# EAGLE library part TRANSFLASH (library sd-mmc)
TransFlash TF Micro SD Card Socket Adapter
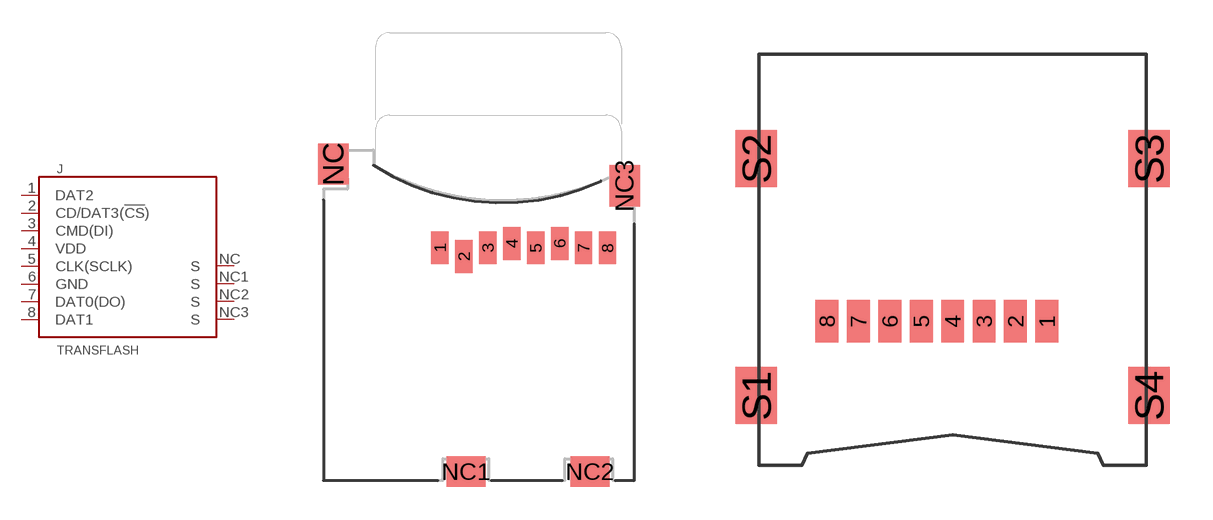
[diagram p1: symbol with the pads of MICROSD_MICROSD; footprints MICROSD_MICROSD, TRANSFLASH-LOCK-SOCK]

Designator prefix J

## TRANSFLASH-PUSH  [MICROSD_MICROSD]
1  DAT2
2  CD/DAT3(!CS!)
3  CMD(DI)
4  VDD  pwr
5  CLK(SCLK)
6  GND  pwr
7  DAT0(DO)
8  DAT1
NC  S  pas
NC1  S  pas
NC2  S  pas
NC3  S  pas

## TRANSFLASH-LOCK  [TRANSFLASH-LOCK-SOCK]
1  DAT2
2  CD/DAT3(!CS!)
3  CMD(DI)
4  VDD  pwr
5  CLK(SCLK)
6  GND  pwr
7  DAT0(DO)
8  DAT1
S1  S  pas
S2  S  pas
S3  S  pas
S4  S  pas

## Footprint MICROSD_MICROSD (pad centres in mm)
smd 0.8 x 1.5: 1 -1.94,2.7; 2 -0.84,2.3; 3 0.26,2.7; 4 1.36,2.9; 5 2.46,2.7; 6 3.56,2.9; 7 4.66,2.7; 8 5.76,2.7
smd 1.4 x 1.9: NC -6.85,6.55; NC3 6.55,5.55
smd 1.8 x 1.4: NC1 -0.75,-7.6; NC2 4.95,-7.6

## Footprint TRANSFLASH-LOCK-SOCK (pad centres in mm)
smd 0.8 x 1.5: 1 3.3,-0.46; 2 2.2,-0.46; 3 1.1,-0.46; 4 0,-0.46; 5 -1.1,-0.46; 6 -2.2,-0.46; 7 -3.3,-0.46; 8 -4.4,-0.46
smd 1.45 x 2: S1 -6.875,-3.06; S2 -6.875,5.24; S3 6.875,5.24; S4 6.875,-3.06